# Altium footprint library DANCE_LIB_REV2.PcbLib: 146 footprints (part 10 of 10)
Each footprint in its own frame and in the unit in brackets; x right, y up, seen from the top. Pads: shape width x height; smd on the part's side, far side on the other; paste and mask are expansions set on the pad; w line width, h text height; cw(c..) or ccw(c..) is an arc to the next point about the centre after c.
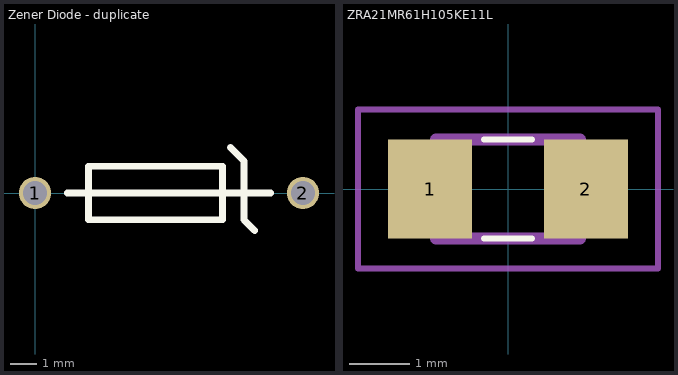
[diagram p9: the footprints below, top view; thin cyan lines are the x and y axes]

## Zener Diode - duplicate [mm]
pads (2):
  round 1.2 hole 0.9: 1(0,0) 2(10,0)
Top Overlay:
  lines w0.254: 1.2,0 8.8,0 ; 7.3,1.7 7.8,1.2 7.8,1.1 7.8,-1 8.2,-1.4 ; 2,-1 7,-1 7,1 2,1 2,-1

## ZRA21MR61H105KE11L [mm]
pads (2):
  rect 1.4x1.65 smd: 1(-1.3,0) 2(1.3,0)
Top Overlay:
  lines w0.1: -0.4,-0.825 0.4,-0.825 ; -0.4,0.825 0.4,0.825
Mechanical 13:
  lines w0.2: -1.2,-0.825 1.2,-0.825 1.2,0.825 -1.2,0.825 -1.2,-0.825
Mechanical 15:
  lines w0.1: -2.5,-1.325 2.5,-1.325 2.5,1.325 -2.5,1.325 -2.5,-1.325
3D body "ZRA21MR61H105KE11L.stp": height 1.3, standoff 0, extent -1.86,-0.825 1.86,0.825